# Altium footprint library PCB - OPTOISOLATOR - BROADCOM LIMITED SOIC-8.PcbLib: 1 footprints
Each footprint in its own frame and in the unit in brackets; x right, y up, seen from the top. Pads: shape width x height; smd on the part's side, far side on the other; paste and mask are expansions set on the pad; w line width, h text height; cw(c..) or ccw(c..) is an arc to the next point about the centre after c.
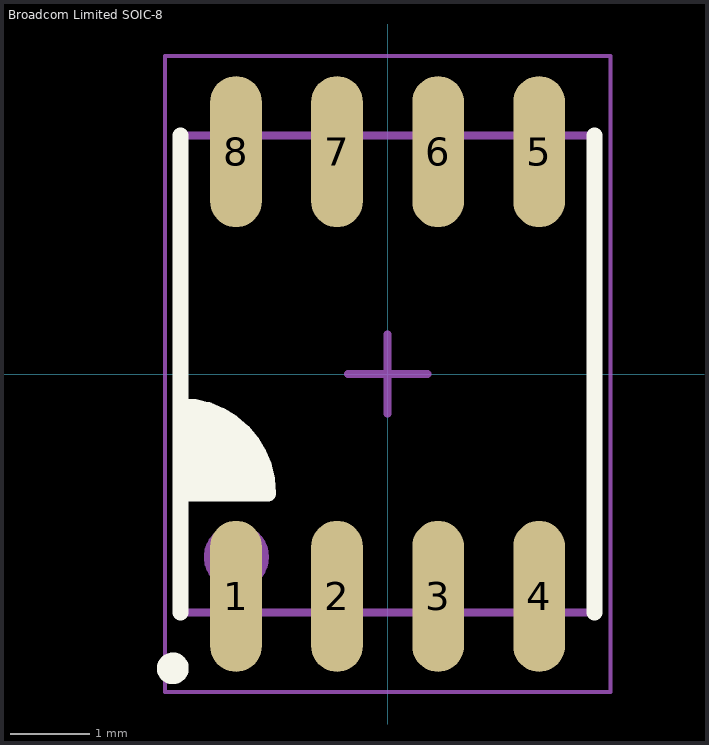
[diagram p0: the footprint, top view; thin cyan lines are the x and y axes]

## Broadcom Limited SOIC-8 [mm] "Logic Output Optoisolator, 1.27mm Pitch, 5.08x3.92 mm Body, SO8 Package"
height 3.7
pads (8):
  oval 0.65x1.9 smd: 1(-1.905,-2.795) 2(-0.635,-2.795) 3(0.635,-2.795) 4(1.905,-2.795) 5(1.905,2.795) 6(0.635,2.795) 7(-0.635,2.795) 8(-1.905,2.795)
Top Overlay:
  circle w0.2: c-2.7,-3.7 r0.1
  region: -2.6,-1.1
  region: -2.6,-0.4 -2.492,-0.4 -2.279,-0.442 -2.079,-0.525 -1.899,-0.646 -1.746,-0.799 -1.625,-0.979 -1.542,-1.179 -1.5,-1.392 -1.5,-1.5 -2.6,-1.5
  lines w0.2: -2.604,-2.997 -2.604,2.997 ; -2.6,-1.5 -1.5,-1.5 ccw(c-2.6,-1.5) -2.6,-0.4 ; 2.603,-2.997 2.603,2.997
Mechanical 13:
  circle w0.1: c-1.9,-2.3 r0.361
  lines w0.1: -2.604,-2.997 2.603,-2.997 2.603,2.997 -2.604,2.997 -2.604,-2.997
Mechanical 15 (Mech15):
  lines w0.05: -2.8,-4 -2.8,4 2.8,4 2.8,-4 -2.8,-4
  lines w0.1: -0.5,0 0,0 ; 0,-0.5 0,0 ; 0,0.5 0,0 ; 0.5,0 0,0
3D body "Broadcom Limited - SOIC-8 v2.step": height 3.61, standoff 0, extent -2.604,-2.997 2.603,2.997